# Altium footprint library IMR_LIB_PCB.PcbLib: 119 footprints (part 2 of 8)
Each footprint in its own frame and in the unit in brackets; x right, y up, seen from the top. Pads: shape width x height; smd on the part's side, far side on the other; paste and mask are expansions set on the pad; w line width, h text height; cw(c..) or ccw(c..) is an arc to the next point about the centre after c.
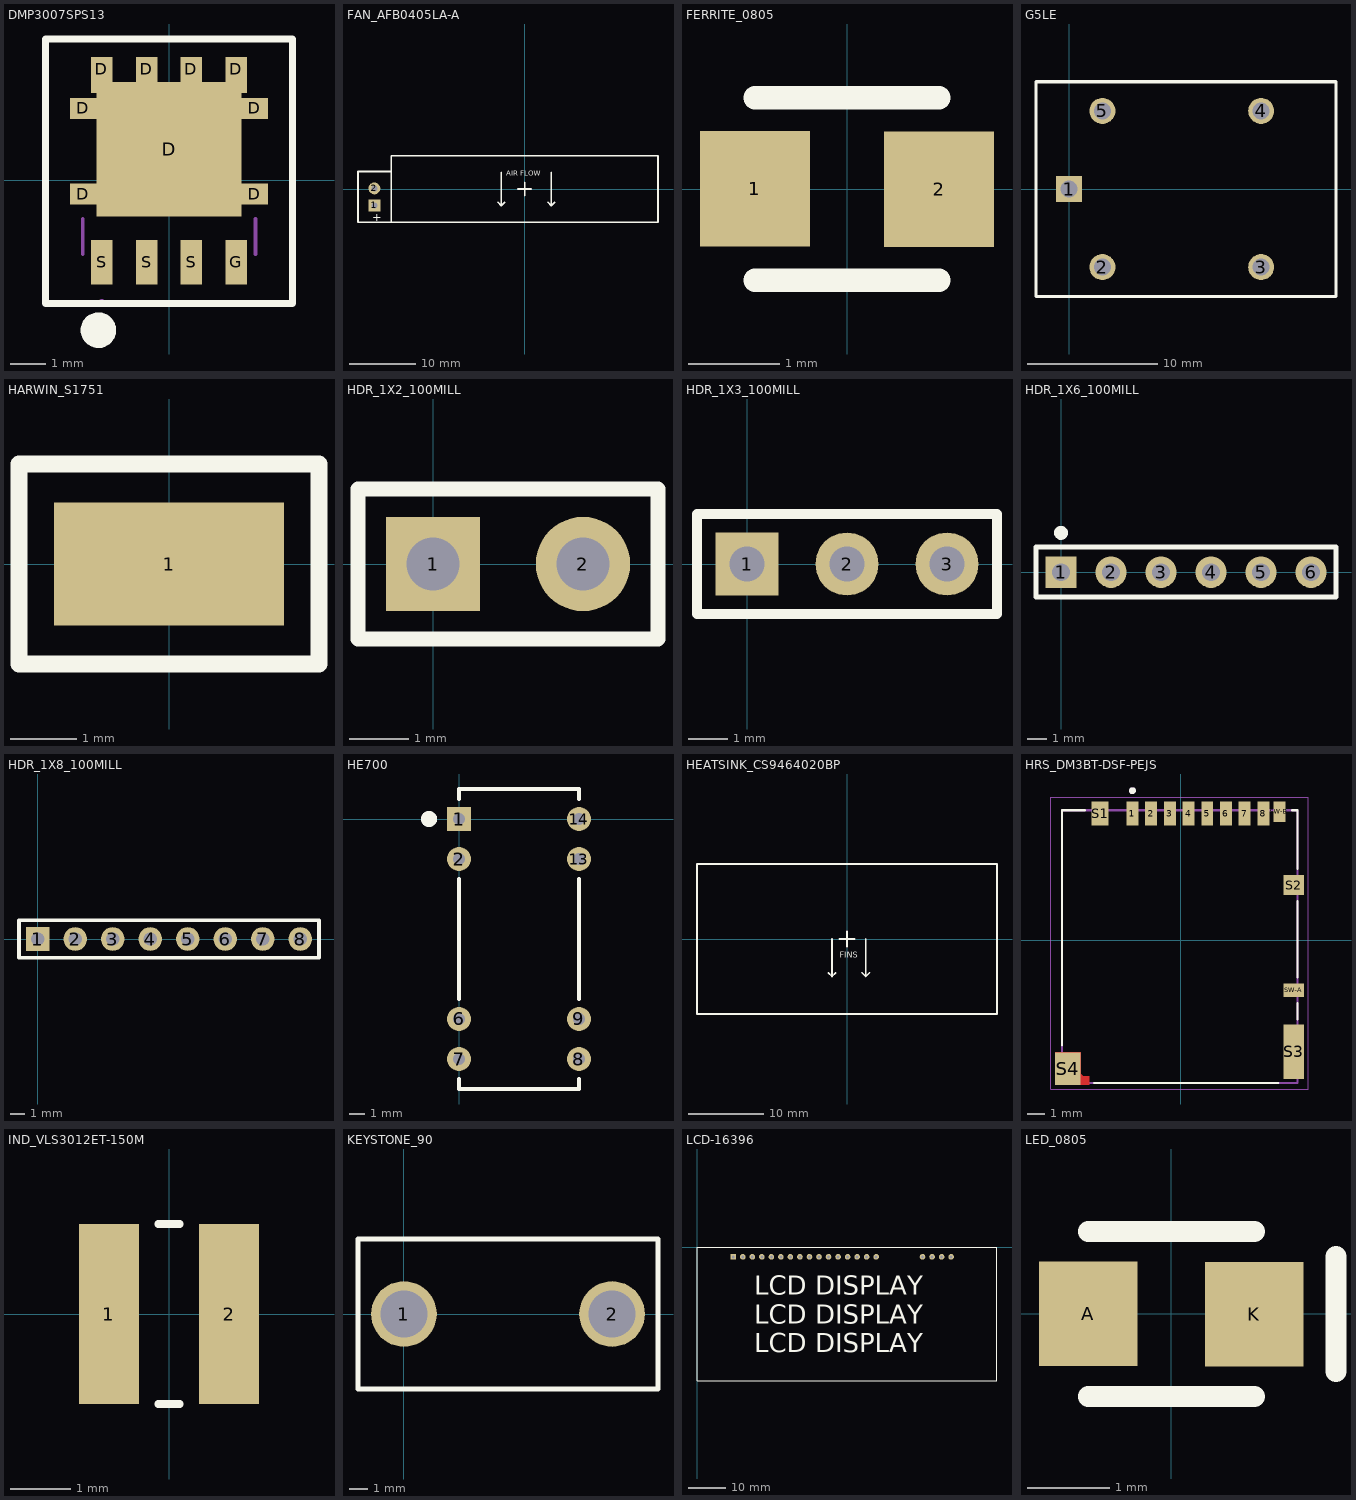
[diagram p1: the footprints below, top view; thin cyan lines are the x and y axes]

## DMP3007SPS13 [mm]
pads (15):
  rect 0.75x0.595 smd: D(-2.427,-0.393) D(-2.427,2.031) D(2.428,-0.393) D(2.428,2.031)
  rect 0.16x0.31 smd: D(-2.129,2.626) D(2.131,2.626)
  rect 0.61x0.71 smd: D(-1.904,3.136) D(-0.634,3.136) D(0.636,3.136) D(1.906,3.136)
  rect 4.1x3.81 smd: D(0.001,0.875)
  rect 0.61x1.27 smd: G(1.906,-2.328) S(-1.904,-2.328) S(-0.634,-2.328) S(0.636,-2.328)
Top Overlay:
  circle w0.508: c-2,-4.25 r0.25
  lines w0.2: -3.5,-3.5 3.5,-3.5 3.5,4 -3.5,4 -3.5,-3.5
Mechanical 22:
  lines w0.1: -2.45,-2.096 -2.45,-1.096 ; 2.451,-2.096 2.451,-1.096 ; -1.904,-3.519 cw(c-1.904,-3.469) -1.904,-3.419 cw(c-1.904,-3.469) -1.904,-3.519
3D body: height 1, standoff -0.01, extent -2.589,-2.814 2.589,3.315

## FAN_AFB0405LA-A [mil] "DELTA ELECTRONICS FAN PN: AFB0405LA-A"
height 1574.8
pads (2):
  rect 70x70 hole 35: 1(-887.4,-96.85)
  round 70 hole 35: 2(-887.4,3.15)
Top Overlay:
  lines w10: -157.48,-78.74 -137.8,-98.43 ; -137.8,98.43 -137.8,-98.43 ; -118.11,-78.74 -137.8,-98.43 ; -39.37,0 39.37,0 ; 0,-39.37 0,39.37 ; 137.8,-78.74 157.48,-98.43 ; 157.48,98.43 157.48,-98.43 ; 177.17,-78.74 157.48,-98.43 ; -787.4,-196.85 -984.25,-196.85 -984.25,103.15 -787.4,103.15 ; -787.4,-196.85 -787.4,103.15 ; -787.4,-196.85 787.4,-196.85 787.4,196.85 -787.4,196.85 -787.4,103.15
  text "AIR FLOW" at -108.27,78.74 h30
  text "+" at -901.57,-188.98 h50
3D body: height 1574.8, standoff 0, extent -787.4,-206.7 787.4,206.69

## FERRITE_0805 [mm]
height 1
pads (2):
  rect 1.2x1.27 smd: 1(-1.008,0.003) 2(1.008,-0.003)
Top Overlay:
  lines w0.254: -1.008,-1 1.008,-1 ; -1.008,1 1.008,1
3D body: height 1.05, standoff 0, extent -1,-0.625 1,0.625

## G5LE [mm] "Relay G5LE-1-36 DC5"
height 19
pads (5):
  rect 2x2 hole 1.3: 1(0,0)
  round 2 hole 1.3: 2(2.55,-6) 3(14.75,-6) 4(14.75,6) 5(2.55,6)
Top Overlay:
  lines w0.254: 18.918,8.25 18.923,8.255 ; -2.55,-8.25 -2.55,8.25 20.5,8.25 20.5,-8.25 -2.55,-8.25
3D body: height 19, standoff 0, extent -2.54,-8.255 20.447,8.255

## HARWIN_S1751 [mm] "TEST POINT"
pads (1):
  rect 3.45x1.85 smd: 1(0,0)
Top Overlay:
  lines w0.254: -2.25,-1.5 2.25,-1.5 2.25,1.5 -2.25,1.5 -2.25,-1.5
3D body: height 2.1, standoff 0.05, extent -1.625,-0.8 1.625,0.85

## HDR_1X2_100MILL [mm] "SINGLE ROW 2 PIN HDR 2.54MM"
height 10.16
pads (2):
  rect 1.6x1.6 hole 0.9: 1(0,0)
  round 1.6 hole 0.9: 2(2.54,0)
Top Overlay:
  lines w0.254: -1.27,-1.27 3.81,-1.27 3.81,1.27 -1.27,1.27 -1.27,-1.27
3D body: height 8.57, standoff -2.97, extent -1.24,-1.27 3.84,1.27

## HDR_1X3_100MILL [mm] "SINGLE ROW 3 PIN HDR 2.54MM"
height 10.16
pads (3):
  rect 1.6x1.6 hole 0.9: 1(0,0)
  round 1.6 hole 0.9: 2(2.54,0) 3(5.08,0)
Top Overlay:
  lines w0.254: -1.27,-1.27 6.35,-1.27 6.35,1.27 -1.27,1.27 -1.27,-1.27
3D body: height 8.38, standoff -2.54, extent -1.27,-1.27 6.35,1.27

## HDR_1X6_100MILL [mm] "SINGLE ROW 6 PIN HDR 2.54MM"
pads (6):
  rect 1.6x1.6 hole 0.9: 1(0,0)
  round 1.6 hole 0.9: 2(2.54,0) 3(5.08,0) 4(7.62,0) 5(10.16,0) 6(12.7,0)
Top Overlay:
  circle w0.508: c0,2 r0.1
  lines w0.254: -1.27,-1.27 13.97,-1.27 13.97,1.27 -1.27,1.27 -1.27,-1.27
3D body: height 8.57, standoff -2.97, extent -1.27,-1.27 13.97,1.27

## HDR_1X8_100MILL [mm] "SINGLE ROW 8 PIN HDR 2.54MM"
height 7.62
pads (8):
  rect 1.6x1.6 hole 0.9: 1(0,0)
  round 1.6 hole 0.9: 2(2.54,0) 3(5.08,0) 4(7.62,0) 5(10.16,0) 6(12.7,0) 7(15.24,0) 8(17.78,0)
Top Overlay:
  lines w0.254: -1.27,-1.27 -1.27,1.27 19.05,1.27 19.05,-1.27 -1.27,-1.27
3D body: height 8.57, standoff -2.97, extent -1.27,-1.27 19.05,1.27

## HE700 [mil] "Littlefuse HE700 series Reed relay"
height 216.54
pads (8):
  rect 60x60 hole 30: 1(0,0)
  round 60 hole 30: 2(0,-100) 6(0,-500) 7(0,-600) 8(300,-600) 9(300,-500) 13(300,-100) 14(300,0)
Top Overlay:
  circle w20: c-75,0 r10
  lines w10: 0,-650 0,-675 300,-675 300,-650 ; 0,-450 0,-150 ; 0,50 0,75 300,75 300,50 ; 300,-450 300,-150
3D body: height 216.54, standoff 0, extent 0,-675 300,75

## HEATSINK_CS9464020BP [mm] "COOLING SOURCE HEAT SINK PN: CS9464020BP"
height 40
Top Overlay:
  lines w0.254: -2.5,-4.5 -2,-5 ; -2,0 -2,-5 ; -1.5,-4.5 -2,-5 ; -1,0 1,0 ; 0,-1 0,1 ; 2,-4.5 2.5,-5 ; 2.5,0 2.5,-5 ; 3,-4.5 2.5,-5 ; -20,-10 20,-10 20,10 -20,10 -20,-10
  text "FINS" at -1,-2.5 h0.76
3D body: height 40, standoff 0, extent -1,-10 1,7.5
3D body: height 40, standoff 0, extent 17.5,-10 20,7.5
3D body: height 40, standoff 0, extent 12.5,-10 15,7.5
3D body: height 40, standoff 0, extent 7.5,-10 10,7.5
3D body: height 40, standoff 0, extent 2.5,-10 5,7.5
3D body: height 40, standoff 0, extent -5,-10 -2.5,7.5
3D body: height 40, standoff 0, extent -10,-10 -7.5,7.5
3D body: height 40, standoff 0, extent -15,-10 -12.5,7.5
3D body: height 40, standoff 0, extent -20,-10 -17.5,7.5
3D body: height 40, standoff 0, extent -20,7.5 20,10

## HRS_DM3BT-DSF-PEJS [mm] "HIROSE_DM3BT-DSF-PEJS"
height 3
pads (14):
  rect 0.7x1.4 smd: 1(-2.85,7.45) 2(-1.75,7.45) 3(-0.65,7.45) 4(0.45,7.45) 5(1.55,7.45) 6(2.65,7.45) 7(3.75,7.45) 8(4.85,7.45)
  rect 1x1.4 smd: S1(-4.75,7.45)
  rect 1.2x1.2 smd: S2(6.65,3.25)
  rect 1.2x3.2 smd: S3(6.65,-6.55)
  rect 1.5x1.9 smd paste-2 mask+0: S4(-6.65,-7.55)
  rect 1.2x0.8 smd: SW-A(6.65,-2.95)
  rect 0.7x1.2 smd: SW-B(5.8,7.55)
Top Layer:
  region: -5.9,-7.85 -5.75,-8 -5.4,-8 -5.4,-8.5 -7.4,-8.5 -7.4,-6.6 -5.9,-6.6
Top Overlay:
  circle w0.2: c-2.85,8.8 r0.1
  lines w0.127: -7,-6.2 -7,7.65 -5.65,7.65 ; -5.1,-8.4 5.75,-8.4 ; 6.55,7.65 6.85,7.65 6.85,4.2 ; 6.85,-4.65 6.85,-3.7 ; 6.85,-2.2 6.85,2.3
Top Paste:
  region: -5.9,-7.85 -5.75,-8 -5.4,-8 -5.4,-8.5 -7.4,-8.5 -7.4,-6.6 -5.9,-6.6
Top Solder:
  region: -5.8,-7.75 -5.65,-7.9 -5.3,-7.9 -5.3,-8.6 -7.5,-8.6 -7.5,-6.5 -5.8,-6.5
3D Top:
  circle w0.2: c-2.85,8.8 r0.1
  lines w0.127: -7,-8.4 -7,7.65 6.85,7.65 6.85,-8.4 -7,-8.4
Courtyard Top:
  lines w0.05: -7.65,-8.75 -7.65,8.4 7.5,8.4 7.5,-8.75 -7.65,-8.75
3D body: height 1.85, standoff 0.02, extent -7,-9.875 6.85,7.675

## IND_VLS3012ET-150M [mm]
height 1.2
pads (2):
  rect 1x3 smd: 1(-1,0) 2(1,0)
Top Overlay:
  lines w0.127: -0.18,-1.5 0.18,-1.5 ; -0.18,1.5 0.18,1.5
3D body: height 1.2, standoff 0, extent -1.5,-1.5 1.5,1.5

## KEYSTONE_90 [mm] "KEYSTONE ELECTRONICS AAA BATTERY HOLDER"
height 11.1
pads (2):
  round 3.5 hole 2.5: 1(0,0) 2(11.1,0)
Top Overlay:
  lines w0.254: -2.45,-4 -2.45,4 13.55,4 13.55,-4 -2.45,-4
3D body: height 11.7, standoff 0.09, extent -2.387,-6 13.487,6.073
3D body: height 11, standoff 1, extent -9.7,-4.992 21.3,5
3D body: height 10, standoff 2, extent -9.875,-3.997 -8.875,3.997
3D body: height 8, standoff 4, extent -9.875,-2 -9.375,2

## LCD-16396 [mm] "LCD 16X2"
pads (20):
  rect 1.5x1.5 hole 0.75: 1(9.677,-2.54)
  round 1.5 hole 0.75: 2(12.217,-2.54) 3(14.757,-2.54) 4(17.297,-2.54) 5(19.837,-2.54) 6(22.377,-2.54) 7(24.917,-2.54) 8(27.457,-2.54) 9(29.997,-2.54) 10(32.537,-2.54) 11(35.077,-2.54) 12(37.617,-2.54) 13(40.157,-2.54) 14(42.697,-2.54) 15(45.237,-2.54) 16(47.777,-2.54) 17(60.147,-2.54) 18(62.687,-2.54) 19(65.227,-2.54) 20(67.767,-2.54)
Top Overlay:
  lines w0.254: 0,-35.56 80.01,-35.56 80.01,0 0,0 0,-35.56
  text "LCD DISPLAY" at 15.24,-12.7 h5.08
  text "LCD DISPLAY" at 15.24,-27.94 h5.08
  text "LCD DISPLAY" at 15.24,-20.32 h5.08

## LED_0805 [mm] "LED 0805"
height 1.1
pads (2):
  rect 1.2x1.27 smd: A(-1.008,0.003) K(1.008,-0.003)
Top Overlay:
  lines w0.254: -1.008,-1 1.008,-1 ; -1.008,1 1.008,1 ; 2,-0.7 2,0.7
3D body: height 1.1, standoff 0, extent -1.6,-0.8 1.6,0.8